# Altium integrated library power.IntLib: 8 symbols
Pins are listed as number, name and electrical type; pins without a type are passive.

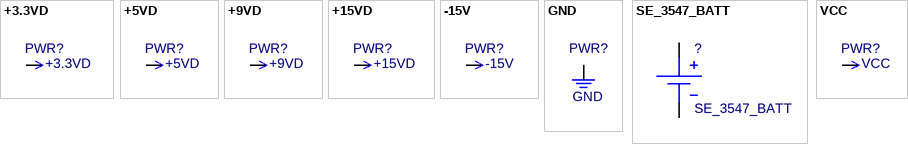
[diagram p0: symbols +3.3VD to VCC]

## +3.3VD
designator PWR?
Value: *
pins: 1 +3.3VD (power)

## +5VD
designator PWR?
Value: *
pins: 1 +5VD (power)

## +9VD
designator PWR?
Value: *
pins: 1 VCC (power)

## +15VD
designator PWR?
Value: *
pins: 1 +15VD (power)

## -15V
designator PWR?
Value: *
pins: 1 -15V (power)

## GND
designator PWR?
Value: *
pins: 1 GND (power)

## SE_3547_BATT
designator ?
Value: *
footprint SE_3547_BATT_SE_3547_BATT(Primary)
pins: 1, 2

## VCC
designator PWR?
Value: *
pins: 1 VCC (power)